# Altium footprint library DE-020224.PcbLib: 119 footprints (part 6 of 8)
Each footprint in its own frame and in the unit in brackets; x right, y up, seen from the top. Pads: shape width x height; smd on the part's side, far side on the other; paste and mask are expansions set on the pad; w line width, h text height; cw(c..) or ccw(c..) is an arc to the next point about the centre after c.
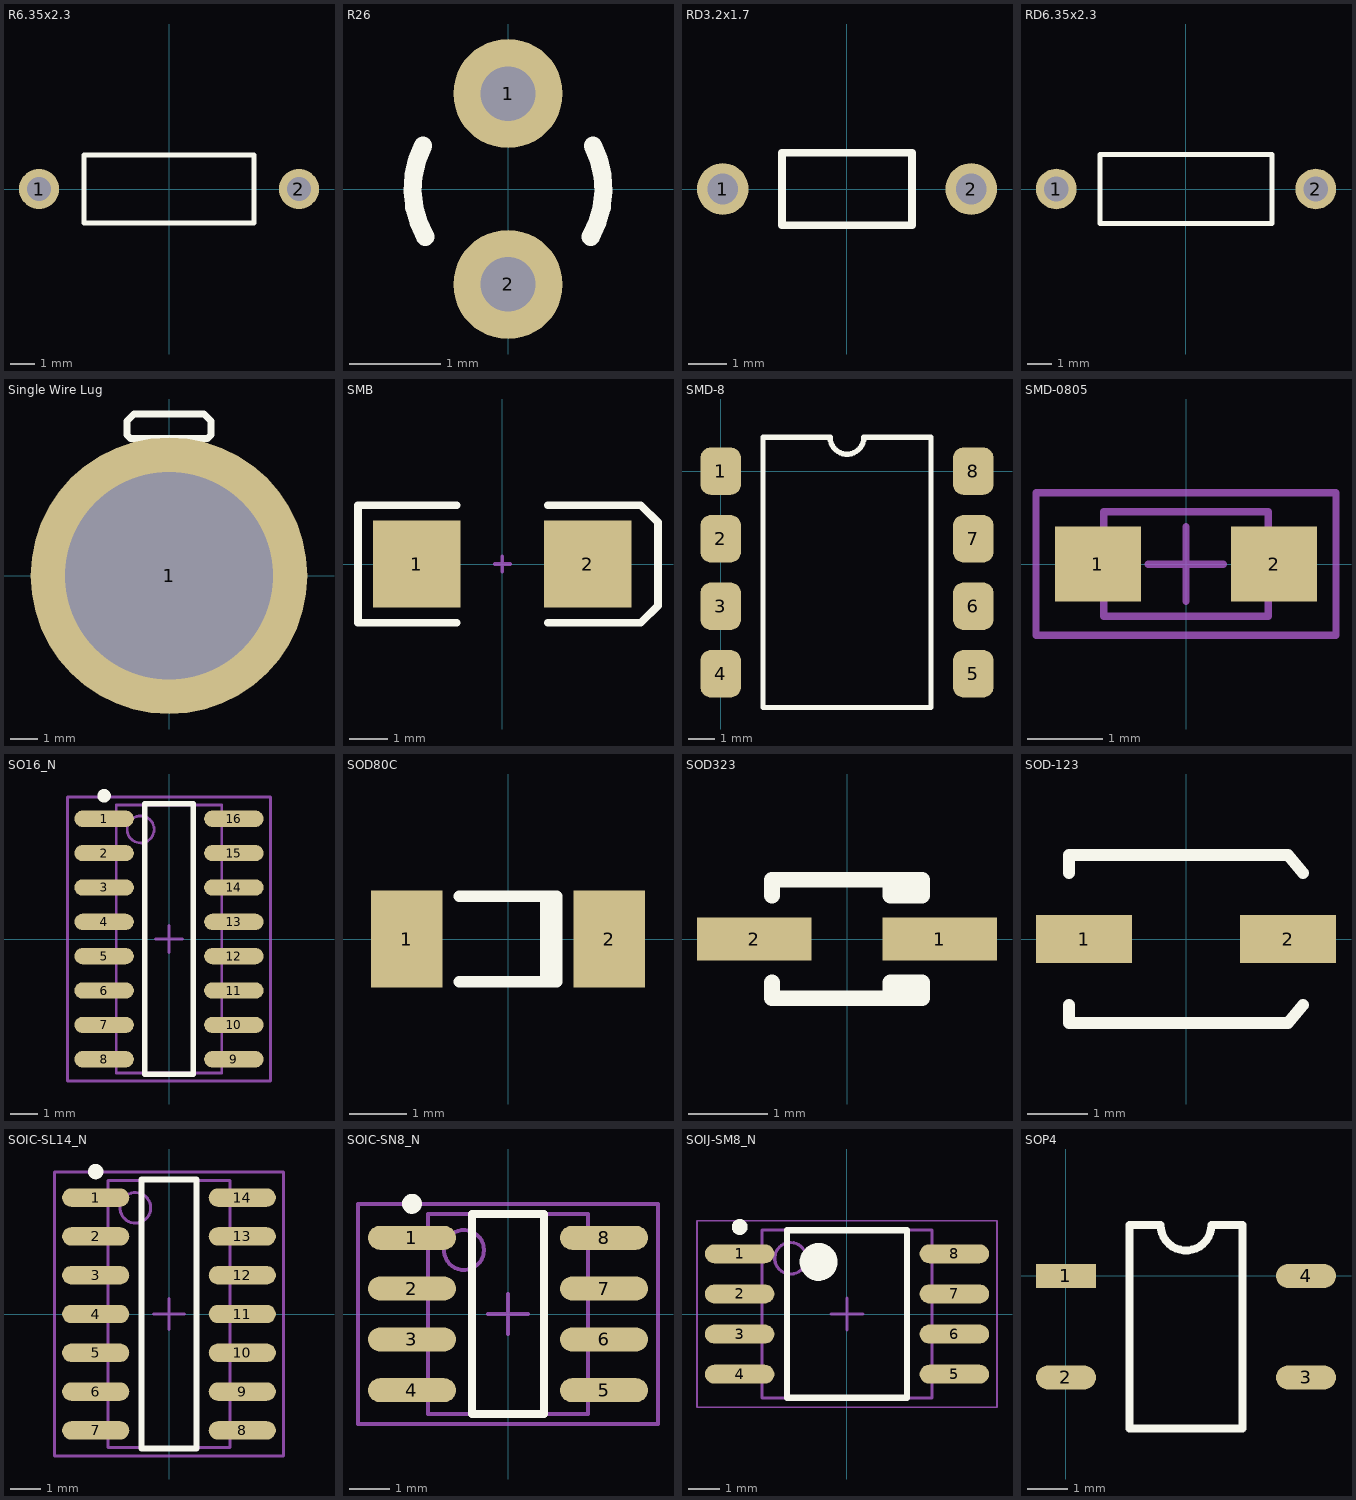
[diagram p5: the footprints below, top view; thin cyan lines are the x and y axes]

## R6.35x2.3 [mm] "Resistor, Axial; Body 7 x 2.8 mm (LxDia. max), Lead Dia. 0.7 mm (max)"
height 2.8
pads (2):
  round 1.65 hole 1: 1(-5.35,0) 2(5.35,0)
Top Overlay:
  lines w0.2: -3.5,-1.4 3.5,-1.4 3.5,1.4 -3.5,1.4 -3.5,-1.4

## R26 [mm] "Crystal, Thru-Hole; 2 Leads; Body 2.1 x 6.2 mm (Dia.xH)"
height 6.2
pads (2):
  round 1.2 hole 0.6: 1(0,1.05) 2(0,-1.05)
Top Overlay:
  lines w0.2: -0.936,0.477 ccw(c0,0) -0.909,-0.525 ; 0.909,-0.525 ccw(c0,0) 0.936,0.477

## RD3.2x1.7 [mm] "Resistor, Axial; Body 3.4 x 1.9 mm (LxDia. max), Lead Dia. 0.5 mm (max)"
height 1.9
pads (2):
  round 1.35 hole 0.8: 1(-3.25,0) 2(3.25,0)
Top Overlay:
  lines w0.2: -1.7,-0.95 1.7,-0.95 1.7,0.95 -1.7,0.95 -1.7,-0.95

## RD6.35x2.3 [mm] "Resistor, Axial; Body 7 x 2.8 mm (LxDia. max), Lead Dia. 0.65 mm (max)"
height 2.8
pads (2):
  round 1.65 hole 1: 1(-5.275,0) 2(5.275,0)
Top Overlay:
  lines w0.2: -3.5,-1.4 3.5,-1.4 3.5,1.4 -3.5,1.4 -3.5,-1.4

## Single Wire Lug [mm] "Single Wire terminal Connector"
height 11.5
pads (1):
  round 10 hole 7.5: 1(0,0)
Top Overlay:
  circle w0.254: c0,0 r2.8
  lines w0.254: -3,3.8 -3.217,0.495 ccw(c-0.005,0.001) 3.205,0.513 3,3.8 ; -3,3.81 3,3.81 ; -0.635,3.81 -0.635,4.953 ; -0.635,4.064 -0.127,4.064 0.508,4.699 ; -0.635,4.445 -0.381,4.445 0.127,4.953 0.254,4.953 ; 0.381,3.937 0.635,4.191 ; 0.635,3.81 0.635,4.953 ; -0.635,4.953 -1.397,4.953 -1.524,5.08 -1.524,5.588 -1.27,5.842 1.27,5.842 1.524,5.588 1.524,5.08 1.397,4.953 0.635,4.953 ; -0.635,4.953 0.635,4.953
3D body: height 11.5, standoff 0, extent -3.5,-3.5 3.5,3.5

## SMB [mm] "DO-214-AA/SMB; 2 C-Bend Leads; Body 5.3 x 3.6 mm, inc. leads (LxW)"
height 2.54
pads (2):
  rect 2.3x2.3 smd: 1(-2.25,0) 2(2.25,0)
Top Overlay:
  lines w0.2: -1.2,-1.55 -3.8,-1.55 -3.8,1.55 -1.2,1.55 ; 1.2,-1.55 3.65,-1.55 4.1,-1.1 4.1,1.1 3.65,1.55 1.2,1.55
Mechanical 1:
  lines w0.1: -0.2,0 0.2,0 ; 0,-0.2 0,0.2

## SMD-8 [mm]
pads (8):
  rrect50% 1.52x1.78 smd: 1(0,0) 2(0,-2.54) 3(0,-5.08) 4(0,-7.62) 5(9.5,-7.62) 6(9.5,-5.08) 7(9.5,-2.54) 8(9.5,0)
Top Overlay:
  lines w0.2: 1.595,-8.89 7.905,-8.89 7.905,1.27 5.385,1.27 cw(c4.75,1.27) 4.115,1.27 1.595,1.27 1.595,-8.89
3D body: height 3.55, standoff 0.18, extent 1.27,-8.89 8.382,1.27

## SMD-0805 [mm] "Chip Inductor, 2-Leads, Body 2.0x1.2mm"
height 1.1
pads (2):
  rect 1.15x1 smd: 1(-1.175,0) 2(1.175,0)
Mechanical 13:
  lines w0.1: -1.1,-0.7 -1.1,0.7 1.1,0.7 1.1,-0.7 -1.1,-0.7
Mechanical 15:
  lines w0.1: -0.5,0 0.5,0 ; 0,-0.5 0,0.5 ; -2,-0.95 -2,0.95 2,0.95 2,-0.95 -2,-0.95
3D body "74279201.stp": height 1.1, standoff -0.01, extent -1,-0.6 1,0.6

## SO16_N [mm] "SOIC, 16-Leads, Body 9.9x3.9mm, Pitch 1.27mm, IPC Medium Density"
height 1.75
pads (16):
  oval 2.2x0.6 smd: 1(-2.4,4.445) 2(-2.4,3.175) 3(-2.4,1.905) 4(-2.4,0.635) 5(-2.4,-0.635) 6(-2.4,-1.905) 7(-2.4,-3.175) 8(-2.4,-4.445) 9(2.4,-4.445) 10(2.4,-3.175) 11(2.4,-1.905) 12(2.4,-0.635) 13(2.4,0.635) 14(2.4,1.905) 15(2.4,3.175) 16(2.4,4.445)
Top Overlay:
  circle w0.25: c-2.4,5.295 r0.125
  lines w0.2: -0.9,-5 0.9,-5 0.9,5 -0.9,5 -0.9,-5
Mechanical 13:
  circle w0.1: c-1.05,4.05 r0.5
  lines w0.1: -1.95,-4.95 1.95,-4.95 1.95,4.95 -1.95,4.95 -1.95,-4.95
Mechanical 15:
  lines w0.1: -0.5,0 0.5,0 ; 0,-0.5 0,0.5 ; -3.75,-5.25 3.75,-5.25 3.75,5.25 -3.75,5.25 -3.75,-5.25
3D body: height 1.75, standoff 0, extent -1.95,-4.95 1.95,4.95

## SOD80C [mm] "Metal Electrode Face (MELF) Diode; Body 3.5 x 1.6 mm (LxDia)"
height 1.6
pads (2):
  rect 1.25x1.7 smd: 1(-1.775,0) 2(1.775,0)
Top Overlay:
  lines w0.2: -0.85,-0.75 0.85,-0.75 0.85,0.75 -0.85,0.75 ; 0.66,-0.75 0.66,0.75

## SOD323 [mm] "SOD-323/SC-76; 2 Leads; Body 1.7 x 1.3 mm, (LxW)"
height 1.1
pads (2):
  rect 1.45x0.55 smd: 1(1.175,0) 2(-1.175,0)
Top Overlay:
  lines w0.2: -0.95,-0.55 -0.95,-0.75 0.95,-0.75 0.95,-0.55 0.55,-0.55 0.55,-0.75 ; -0.95,0.55 -0.95,0.75 0.95,0.75 0.95,0.55 0.55,0.55 0.55,0.75

## SOD-123 [mm] "SOD-123; 2 Leads; Body 2.7 x 1.6 mm, (LxW)"
height 1.35
pads (2):
  rect 1.6x0.8 smd: 1(-1.7,0) 2(1.7,0)
Top Overlay:
  lines w0.2: -1.95,-1.098 -1.95,-1.4 1.7,-1.4 1.95,-1.098 ; -1.95,1.098 -1.95,1.4 1.7,1.4 1.95,1.098

## SOIC-SL14_N [mm] "SOIC, 14-Leads, Body 8.7x3.9mm, Pitch 1.27mm, IPC Medium Density"
height 1.75
pads (14):
  oval 2.2x0.6 smd: 1(-2.4,3.81) 2(-2.4,2.54) 3(-2.4,1.27) 4(-2.4,0) 5(-2.4,-1.27) 6(-2.4,-2.54) 7(-2.4,-3.81) 8(2.4,-3.81) 9(2.4,-2.54) 10(2.4,-1.27) 11(2.4,0) 12(2.4,1.27) 13(2.4,2.54) 14(2.4,3.81)
Top Overlay:
  circle w0.25: c-2.4,4.66 r0.125
  lines w0.2: -0.9,-4.4 -0.9,4.4 0.9,4.4 0.9,-4.4 -0.9,-4.4
Mechanical 13:
  circle w0.1: c-1.1,3.475 r0.5
  lines w0.1: -2,-4.375 -2,4.375 2,4.375 2,-4.375 -2,-4.375
Mechanical 15:
  lines w0.1: -0.5,0 0.5,0 ; 0,-0.5 0,0.5 ; -3.75,-4.65 -3.75,4.65 3.75,4.65 3.75,-4.65 -3.75,-4.65
3D body: height 1.75, standoff 0, extent -2,-4.375 2,4.375

## SOIC-SN8_N [mm] "SOIC, 8-Leads, Body 4.9x3.8mm, Pitch 1.27mm, IPC Medium Density"
height 1.75
pads (8):
  oval 2.2x0.6 smd: 1(-2.4,1.905) 2(-2.4,0.635) 3(-2.4,-0.635) 4(-2.4,-1.905) 5(2.4,-1.905) 6(2.4,-0.635) 7(2.4,0.635) 8(2.4,1.905)
Top Overlay:
  circle w0.25: c-2.4,2.755 r0.125
  lines w0.2: -0.9,-2.5 -0.9,2.5 0.9,2.5 0.9,-2.5 -0.9,-2.5
Mechanical 13:
  circle w0.1: c-1.1,1.6 r0.5
  lines w0.1: -2,-2.5 -2,2.5 2,2.5 2,-2.5 -2,-2.5
Mechanical 15:
  lines w0.1: -0.5,0 0.5,0 ; 0,-0.5 0,0.5 ; -3.75,-2.75 -3.75,2.75 3.75,2.75 3.75,-2.75 -3.75,-2.75
3D body: height 1.75, standoff 0, extent -2,-2.5 2,2.5

## SOIJ-SM8_N [mm] "SOP, 8-Leads, Body 5.2x5.2mm, Pitch 1.27mm, IPC Medium Density"
height 2.04
pads (8):
  oval 2.2x0.6 smd: 1(-3.4,1.905) 2(-3.4,0.635) 3(-3.4,-0.635) 4(-3.4,-1.905) 5(3.4,-1.905) 6(3.4,-0.635) 7(3.4,0.635) 8(3.4,1.905)
Top Overlay:
  circle w0.6: c-0.9,1.65 r0.3
  circle w0.25: c-3.4,2.755 r0.125
  lines w0.2: -1.9,-2.65 1.9,-2.65 1.9,2.65 -1.9,2.65 -1.9,-2.65
Mechanical 13:
  circle w0.1: c-1.79,1.765 r0.5
  lines w0.1: -2.69,-2.665 2.69,-2.665 2.69,2.665 -2.69,2.665 -2.69,-2.665
Mechanical 15:
  lines w0.05: -4.75,-2.95 4.75,-2.95 4.75,2.95 -4.75,2.95 -4.75,-2.95
  lines w0.1: -0.5,0 0.5,0 ; 0,-0.5 0,0.5
3D body: height 2.04, standoff 0.05, extent -2.69,-2.665 2.69,2.665

## SOP4 [mm]
height 10
pads (4):
  rect 1.5x0.6 smd: 1(0,0)
  oval 1.5x0.6 smd: 2(0,-2.54) 3(6,-2.54) 4(6,0)
Top Overlay:
  lines w0.2: 1.585,-3.81 4.415,-3.81 4.415,1.27 3.635,1.27 cw(c3,1.27) 2.365,1.27 1.585,1.27 1.585,-3.81